# EAGLE library part FAIRCHILD-FSUSB31 (library keves)
Low Power Single Port High Speed USB 2.0 Switch
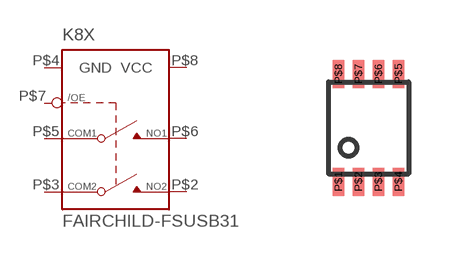
[diagram p16: symbol with the pads of US8; footprint US8]

Designator prefix K8X

## FAIRCHILD-FSUSB31  [US8]
P$2  NO2
P$3  COM2
P$4  GND  pwr
P$5  COM1
P$6  NO1
P$7  OE  in
P$8  VCC  in

## Footprint US8 (pad centres in mm)
smd 0.28 x 0.7: P$1 -0.75,-1.35; P$2 -0.25,-1.35; P$3 0.25,-1.35; P$4 0.75,-1.35; P$5 0.75,1.35; P$6 0.25,1.35; P$7 -0.25,1.35; P$8 -0.75,1.35